# Altium footprint library Resistor - Surface Mount - 1206.PcbLib: 1 footprints
Each footprint in its own frame and in the unit in brackets; x right, y up, seen from the top. Pads: shape width x height; smd on the part's side, far side on the other; paste and mask are expansions set on the pad; w line width, h text height; cw(c..) or ccw(c..) is an arc to the next point about the centre after c.
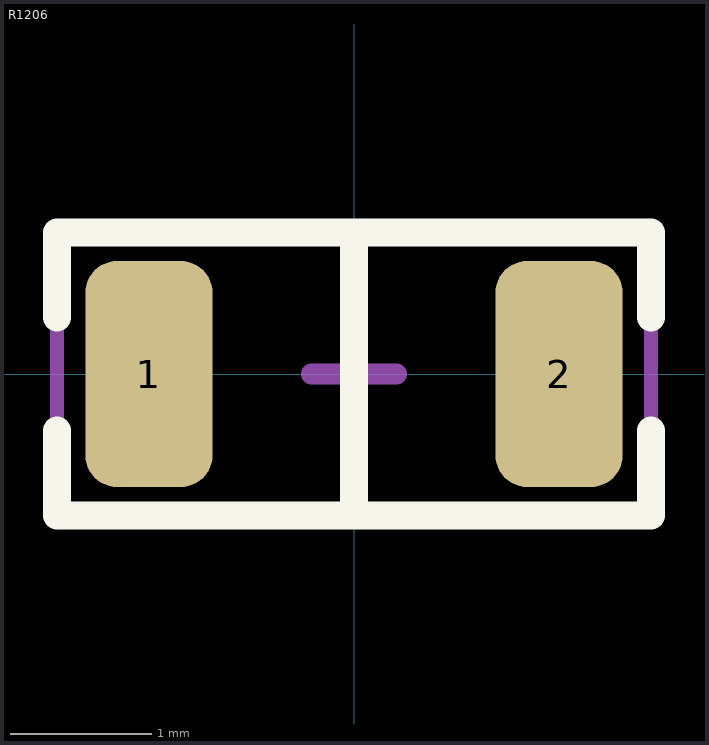
[diagram p0: the footprint, top view; thin cyan lines are the x and y axes]

## R1206 [mm]
pads (2):
  rrect50% 0.9x1.6 smd: 1(-1.45,0) 2(1.45,0)
Top Overlay:
  lines w0.2: -2.1,-0.4 -2.1,-1 0,-1 ; -2.1,0.4 -2.1,1 0,1 ; 2.1,-0.4 2.1,-1 0,-1 ; 2.1,0.4 2.1,1 0,1 ; 0,-1 0,1
Mechanical 2:
  lines w0.1: -2.1,-1 2.1,-1 2.1,1 0,1 -2.1,1 -2.1,-1
  lines w0.15: -0.3,0 0.3,0 ; 0,-0.2 0,0.2
3D body "R1206.STEP": height 0.63, standoff -0.02, extent -1.55,-0.8 1.55,0.8